# EAGLE library part SW-ON (library chuong)
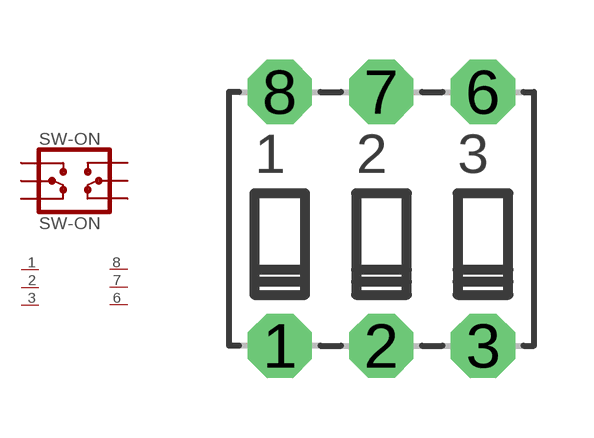
[diagram p66: symbol with the pads of SW-ON; footprint SW-ON]

Designator prefix SW-ON

## SW-ON  [SW-ON]
1  1  pas
2  2  pas
3  3  pas
6  4  pas
7  5  pas
8  6  pas

## Footprint SW-ON (pad centres in mm)
drill 0.813 pad 1.6 octagon: 1 -2.54,-3.81; 2 0,-3.81; 3 2.54,-3.81; 6 2.54,2.54; 7 0,2.54; 8 -2.54,2.54